# Altium footprint library SnapEDApcb.PcbLib: 1 footprints
Each footprint in its own frame and in the unit in brackets; x right, y up, seen from the top. Pads: shape width x height; smd on the part's side, far side on the other; paste and mask are expansions set on the pad; w line width, h text height; cw(c..) or ccw(c..) is an arc to the next point about the centre after c.
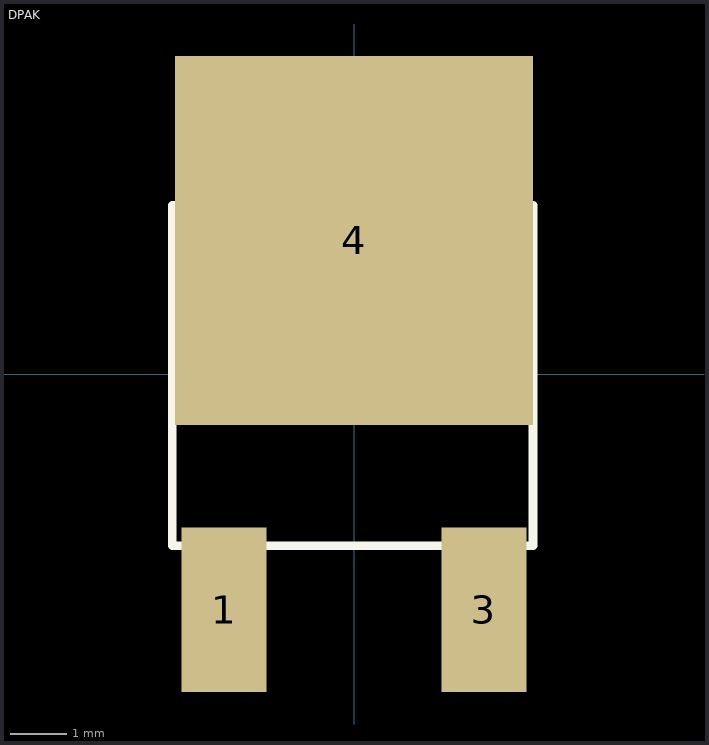
[diagram p0: the footprint, top view; thin cyan lines are the x and y axes]

## DPAK [mm]
pads (3):
  rect 1.5x2.9 smd: 1(-2.286,-4.15) 3(2.286,-4.15)
  rect 6.3x6.5 smd: 4(0,2.35)
Top Overlay:
  lines w0.152: -2.464,2.972 -3.2,2.972 -3.2,-3.023 3.15,-3.023 3.15,2.972 2.464,2.972
Mechanical 13:
  lines w0.152: -2.464,2.972 2.464,2.972